# Altium schematic symbol library SCH - DRIVER - MOTOR - TOSHIBA TB67H400AFTG.SCHLIB: 1 symbol
Pins are listed as number, name and electrical type; pins without a type are passive.

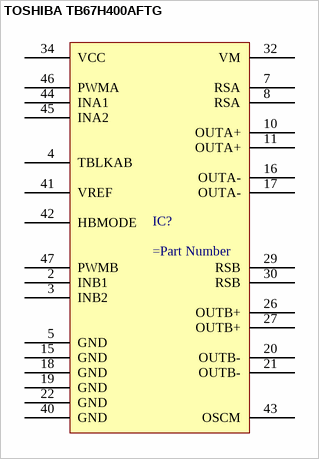
[diagram p0: symbol TOSHIBA TB67H400AFTG]

## TOSHIBA TB67H400AFTG
designator IC?
pins: 2 INB1, 3 INB2, 4 TBLKAB, 5 GND, 7 RSA, 8 RSA, 10 OUTA+, 11 OUTA+, 15 GND, 16 OUTA-, 17 OUTA-, 18 GND, 19 GND, 20 OUTB-, 21 OUTB-, 22 GND, 26 OUTB+, 27 OUTB+, 29 RSB, 30 RSB, 32 VM, 34 VCC, 40 GND, 41 VREF, 42 HBMODE, 43 OSCM, 44 INA1, 45 INA2, 46 PWMA, 47 PWMB